# EAGLE library part LOGIC-4551 (library tidyeagle)
4551 - Quad 2-Channel Analog Multiplexer/DeMultiplexer Datasheet: Full <http://www.farnell.com/datasheets/76347.pdf> Application Notes: Pull SEL HIGH to select the '1' inputs/outputs. Pull SEL LOW to select the '0' inputs/outputs. Tie VEE to GND if it is not being used in particular. VEE should always be >= to GND.
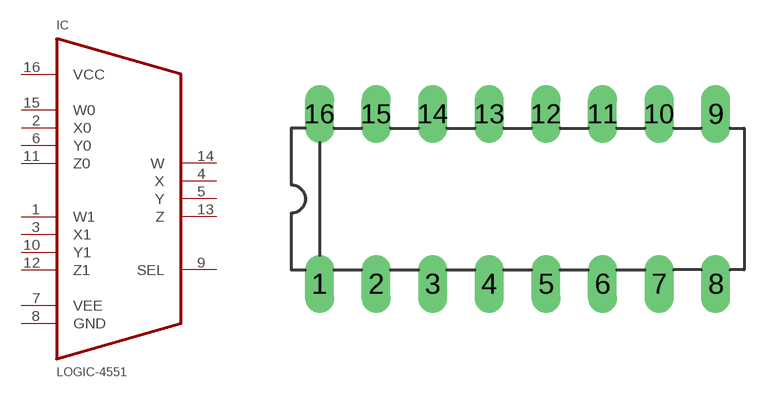
[diagram p33: symbol with the pads of DIL16-3; footprint DIL16-3]

Designator prefix IC

## LOGIC-4551-DIP16  [DIL16-3]
1  W1
2  X0
3  X1
4  X
5  Y
6  Y0
7  VEE
8  GND  sup
9  SEL  in
10  Y1
11  Z0
12  Z1
13  Z
14  W
15  W0
16  VCC  pwr

## Footprint DIL16-3 (pad centres in mm)
drill 0.8 long: 1 -8.89,-3.81; 2 -6.35,-3.81; 3 -3.81,-3.81; 4 -1.27,-3.81; 5 1.27,-3.81; 6 3.81,-3.81; 7 6.35,-3.81; 8 8.89,-3.81; 9 8.89,3.81; 10 6.35,3.81; 11 3.81,3.81; 12 1.27,3.81; 13 -1.27,3.81; 14 -3.81,3.81; 15 -6.35,3.81; 16 -8.89,3.81